# Altium footprint library 器件封装.PCBLIB: 225 footprints (part 4 of 15)
Each footprint in its own frame and in the unit in brackets; x right, y up, seen from the top. Pads: shape width x height; smd on the part's side, far side on the other; paste and mask are expansions set on the pad; w line width, h text height; cw(c..) or ccw(c..) is an arc to the next point about the centre after c.
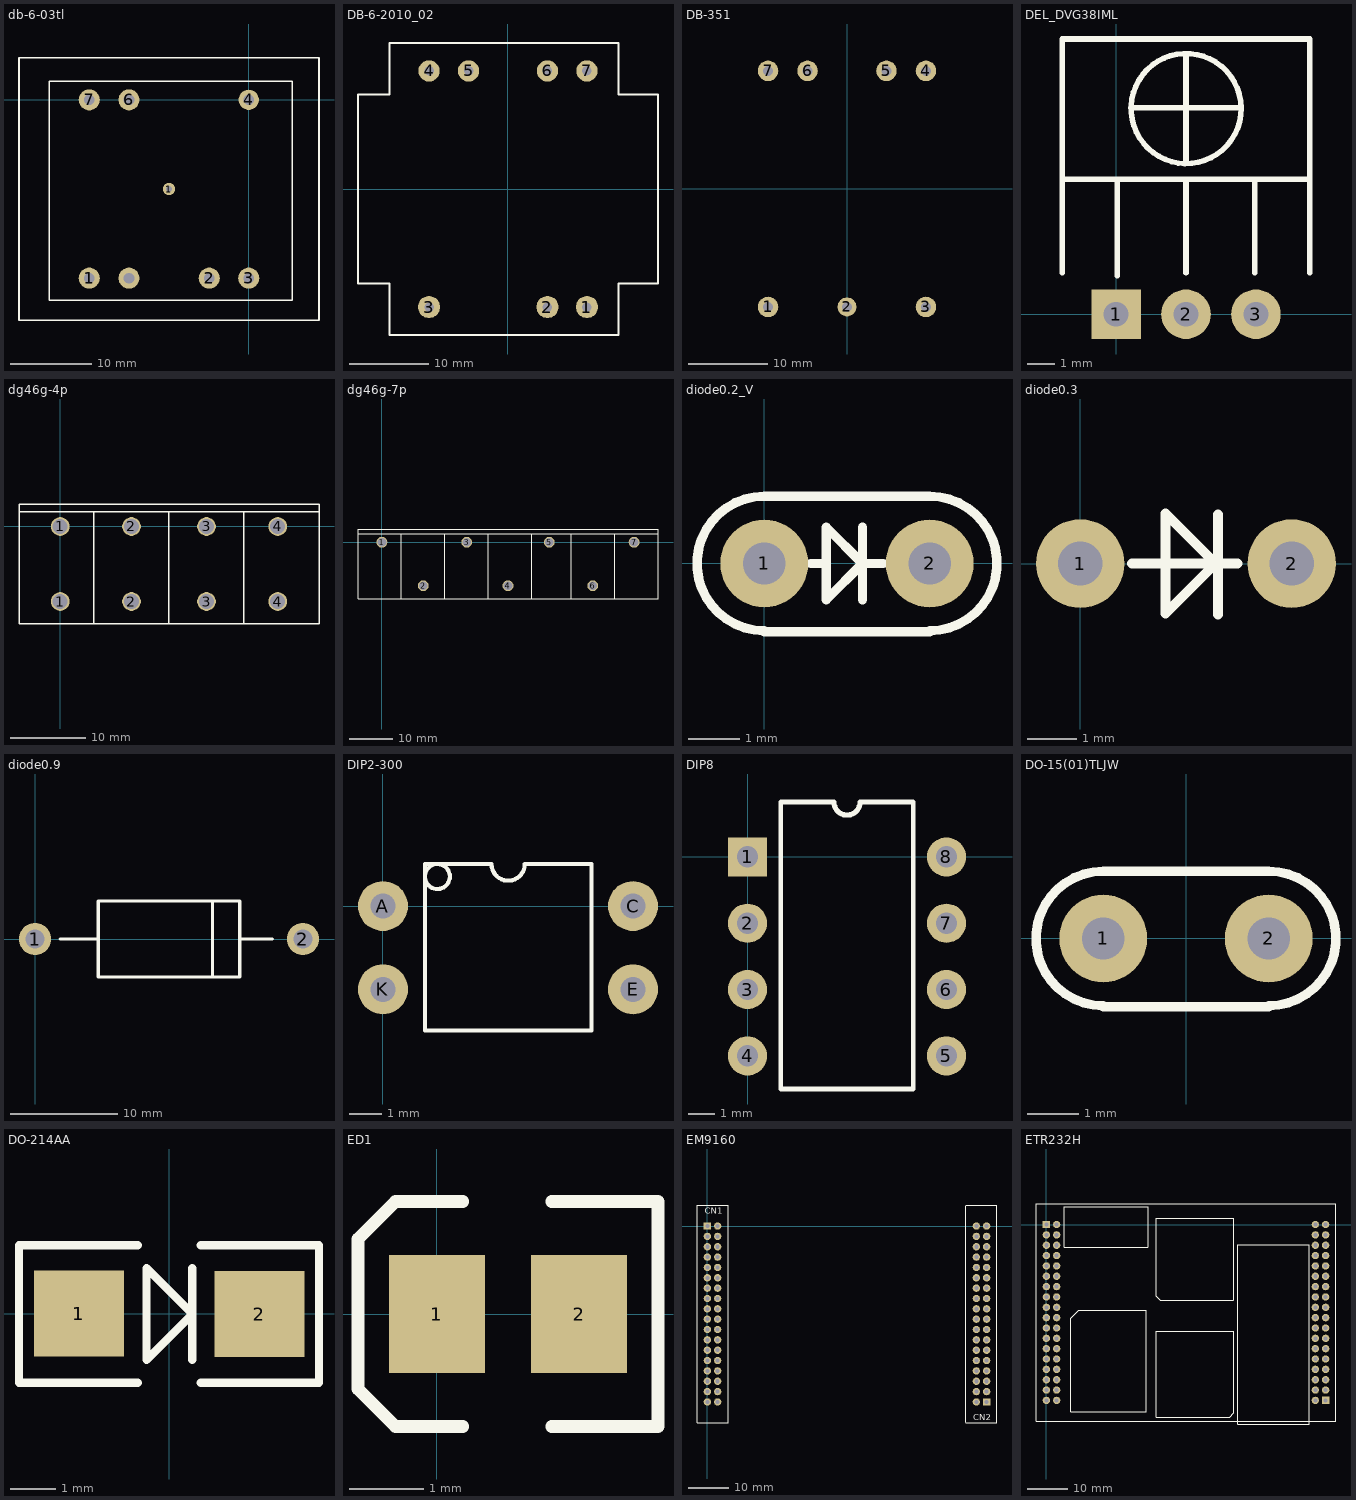
[diagram p3: the footprints below, top view; thin cyan lines are the x and y axes]

## db-6-03tl [mm]
pads (9):
  round 2.6 hole 1.3: 1(-19.67,-22) 2(-4.87,-22) 3(0,-22) 6(-14.77,0) 7(-19.67,0) ""(-14.77,-22)
  round 1.524 hole 0.762: 1(-9.835,-11)
  round 2.5 hole 1.3: 4(0,0)
  round 0 all layers, no hole: 5(-4.87,0)
TopOverlay:
  lines w0.2: 5.272,2.27 -24.62,2.27 -24.62,-24.73 5.38,-24.73 5.38,2.27 ; -28.335,-27.2 -28.335,5.2 8.665,5.2 8.665,-27.2 -28.335,-27.2

## DB-6-2010_02 [mm]
pads (7):
  round 2.8 hole 1.2: 1(10,-14.95) 2(5,-14.95) 3(-10,-14.95)
  round 2.7 hole 1.2: 4(-10,14.95) 5(-5,14.95) 6(5,14.95) 7(10,14.95)
TopOverlay:
  lines w0.254: -19,-12 -15,-12 -15,-18.5 14,-18.5 14,-12 19,-12 19,12 14,12 14,18.5 -15,18.5 -15,12 -19,12 -19,-12

## DB-351 [mm]
pads (7):
  round 2.6 hole 1.3: 1(-10,-14.95) 3(10,-14.95) 4(10,14.95) 5(5,14.95) 6(-5,14.95) 7(-10,14.95)
  round 2.4 hole 1.3: 2(0,-14.95)
BottomOverlay:
  lines w0.2: -19,-12.01 -14,-12.01 -14,-18.51 15,-18.51 15,-12.01 19,-12.01 19,11.99 15,11.99 15,18.49 -14,18.49 -14,11.99 -19,11.99 -19,-12.01

## DEL_DVG38IML [mm]
pads (3):
  rect 1.8x1.8 hole 0.9: 1(0,0)
  round 1.8 hole 0.9: 2(2.54,0) 3(5.08,0)
TopOverlay:
  lines w0.2: -1.96,1.5 -1.96,10 7.04,10 7.04,1.5 ; -1.96,4.9 6.986,4.9 ; 0.04,1.4 0.04,4.9 ; 0.54,7.5 4.54,7.5 ; 2.54,1.5 2.54,4.9 ; 2.54,5.5 2.54,9.4 ; 4.477,7.994 ccw(c2.546,7.474) 4.482,7.974 ; 5.04,1.5 5.04,4.9

## dg46g-4p [mm]
pads (8):
  round 2.5 hole 2: 1(0,-10) 1(0,0) 2(9.5,-10) 2(9.5,0) 3(19.5,-10) 3(19.5,0) 4(29,-10) 4(29,0)
TopOverlay:
  lines w0.2: -5.5,2 34.5,2 ; 4.5,-13 4.5,2 ; 14.5,-13 14.5,2 ; 24.5,-13 24.5,2 ; -5.5,-13 -5.5,3 34.5,3 34.5,-13 -5.5,-13

## dg46g-7p [mm]
pads (7):
  round 2.5 hole 2: 1(0,0) 2(9.5,-10) 3(19.5,0) 4(29,-10) 5(38.5,0) 6(48.5,-10) 7(58,0)
TopOverlay:
  lines w0.2: -5.5,2 63.5,2 ; 4.5,-13 4.5,2 ; 14.5,-13 14.5,2 ; 24.5,-13 24.5,2 ; 34.5,-13 34.5,2 ; 43.5,-13 43.5,2 ; 53.5,-13 53.5,2 ; -5.5,-13 63.5,-13 63.5,3 -5.5,3 -5.5,-13

## diode0.2_V [mm]
pads (2):
  round 1.7 hole 0.82: 1(0,0) 2(3.2,0)
TopOverlay:
  lines w0.18: 0,-1.32 3.2,-1.32 ; 0,-1.3 cw(c0,0) 0,1.3 3.2,1.3 cw(c3.2,0) 3.2,-1.3 ; 0.9,0 1.2,0 ; 1.9,-0.7 1.9,0.7 ; 2.3,0 1.9,0 ; 1.9,0 1.2,0.7 1.2,-0.7 1.9,0

## diode0.3 [mm]
pads (2):
  round 1.8 hole 0.9: 1(0,0) 2(4.3,0)
TopOverlay:
  lines w0.2: 1.05,0 3.2,0 ; 2.8,-1.032 2.8,1 ; 1.732,-1.016 2.748,0 1.732,1.016 1.732,-1.016

## diode0.9 [mm]
pads (2):
  round 3 hole 1.8: 1(0,0) 2(25,0)
TopOverlay:
  lines w0.305: 2.34,0 5.896,0 ; 16.564,-3.556 16.564,3.556 ; 19.104,0 22.152,0 ; 5.896,-3.556 19.104,-3.556 19.104,3.556 5.896,3.556 5.896,-3.556

## DIP2-300 [mil]
pads (4):
  round 60 hole 30: A(0,0) C(300.24,0) E(300.24,-100) K(0,-100)
TopOverlay:
  circle w5: c65.29,35.44 r15
  lines w5: 50.29,-149.56 250.29,-149.56 250.29,50.44 170.29,50.44 cw(c150.29,50.44) 130.29,50.44 50.29,50.44 50.29,-149.56

## DIP8 [mm]
pads (8):
  rect 1.5x1.5 hole 0.82: 1(-0.006,0)
  round 1.5 hole 0.82: 2(-0.006,-2.54) 3(-0.006,-5.08) 4(-0.006,-7.62) 5(7.614,-7.62) 6(7.614,-5.08) 7(7.614,-2.54) 8(7.614,0)
TopOverlay:
  lines w0.18: 3.249,2.1 1.264,2.1 1.264,-8.89 6.344,-8.89 6.344,2.1 4.352,2.1
  lines w0.2: 3.304,2.1 ccw(c3.804,2.1) 4.304,2.1

## DO-15(01)TLJW [mm]
pads (2):
  round 1.7 hole 0.82: 1(-1.6,0) 2(1.6,0)
TopOverlay:
  lines w0.18: -1.6,-1.32 1.6,-1.32 ; -1.6,-1.3 cw(c-1.6,0) -1.6,1.3 1.6,1.3 cw(c1.6,0) 1.6,-1.3

## DO-214AA [mm]
pads (2):
  rect 2x1.9 smd: 1(-2,0.005) 2(2,-0.005)
TopOverlay:
  lines w0.185: -0.7,-1.529 -3.33,-1.529 -3.33,1.519 -0.7,1.519 ; 0.512,-1.021 0.512,1.011 ; 0.7,-1.529 3.32,-1.529 3.32,1.519 0.7,1.519 ; -0.504,-1.021 0.512,-0.005 -0.504,1.011 -0.504,-1.021

## ED1 [mm]
pads (2):
  rect 1.3x1.6 smd: 1(0,0) 2(1.924,0)
TopOverlay:
  lines w0.17: 0.346,-1.524 -0.562,-1.524 -1.07,-1.016 -1.07,1.016 -0.562,1.524 0.346,1.524 ; 1.554,-1.524 2.994,-1.524 2.994,1.524 1.554,1.524

## EM9160 [mm]
pads (72):
  rect 1.8x1.8 hole 1: 1A(0,0) 1B(68.58,-43.18)
  round 1.8 hole 1: 2A(2.54,0) 2B(66.04,-43.18) 3A(0,-2.54) 3B(68.58,-40.64) 4A(2.54,-2.54) 4B(66.04,-40.64) 5A(0,-5.08) 5B(68.58,-38.1) 6A(2.54,-5.08) 6B(66.04,-38.1) 7A(0,-7.62) 7B(68.58,-35.56) 8A(2.54,-7.62) 8B(66.04,-35.56) 9A(0,-10.16) 9B(68.58,-33.02) 10A(2.54,-10.16) 10B(66.04,-33.02) 11A(0,-12.7) 11B(68.58,-30.48) 12A(2.54,-12.7) 12B(66.04,-30.48) 13A(0,-15.24) 13B(68.58,-27.94) 14A(2.54,-15.24) 14B(66.04,-27.94) 15A(0,-17.78) 15B(68.58,-25.4) 16A(2.54,-17.78) 16B(66.04,-25.4) 17A(0,-20.32) 17B(68.58,-22.86) 18A(2.54,-20.32) 18B(66.04,-22.86) 19A(0,-22.86) 19B(68.58,-20.32) 20A(2.54,-22.86) 20B(66.04,-20.32) 21A(0,-25.4) 21B(68.58,-17.78) 22A(2.54,-25.4) 22B(66.04,-17.78) 23A(0,-27.94) 23B(68.58,-15.24) 24A(2.54,-27.94) 24B(66.04,-15.24) 25A(0,-30.48) 25B(68.58,-12.7) 26A(2.54,-30.48) 26B(66.04,-12.7) 27A(0,-33.02) 27B(68.58,-10.16) 28A(2.54,-33.02) 28B(66.04,-10.16) 29A(0,-35.56) 29B(68.58,-7.62) 30A(2.54,-35.56) 30B(66.04,-7.62) 31A(0,-38.1) 31B(68.58,-5.08) 32A(2.54,-38.1) 32B(66.04,-5.08) 33A(0,-40.64) 33B(68.58,-2.54) 34A(2.54,-40.64) 34B(66.04,-2.54) 35A(0,-43.18) 35B(68.58,0) 36A(2.54,-43.18) 36B(66.04,0)
TopOverlay:
  lines w0.2: 5.08,5 5.08,-48.26 -2.54,-48.26 -2.54,5.08 5.08,5.08 ; 63.5,-48.26 71.12,-48.26 71.12,5.08 63.5,5.08 ; 63.5,-48.2 63.5,4.9
  text "CN2" at 65.28,-47.68 h1.52
  text "CN1" at -0.62,3.02 h1.52

## ETR232H [mm]
pads (72):
  rect 1.8x1.8 hole 1: 1A(0,0) 1B(68.58,-43.18)
  round 1.8 hole 1: 2A(2.54,0) 2B(66.04,-43.18) 3A(0,-2.54) 3B(68.58,-40.64) 4A(2.54,-2.54) 4B(66.04,-40.64) 5A(0,-5.08) 5B(68.58,-38.1) 6A(2.54,-5.08) 6B(66.04,-38.1) 7A(0,-7.62) 7B(68.58,-35.56) 8A(2.54,-7.62) 8B(66.04,-35.56) 9A(0,-10.16) 9B(68.58,-33.02) 10A(2.54,-10.16) 10B(66.04,-33.02) 11A(0,-12.7) 11B(68.58,-30.48) 12A(2.54,-12.7) 12B(66.04,-30.48) 13A(0,-15.24) 13B(68.58,-27.94) 14A(2.54,-15.24) 14B(66.04,-27.94) 15A(0,-17.78) 15B(68.58,-25.4) 16A(2.54,-17.78) 16B(66.04,-25.4) 17A(0,-20.32) 17B(68.58,-22.86) 18A(2.54,-20.32) 18B(66.04,-22.86) 19A(0,-22.86) 19B(68.58,-20.32) 20A(2.54,-22.86) 20B(66.04,-20.32) 21A(0,-25.4) 21B(68.58,-17.78) 22A(2.54,-25.4) 22B(66.04,-17.78) 23A(0,-27.94) 23B(68.58,-15.24) 24A(2.54,-27.94) 24B(66.04,-15.24) 25A(0,-30.48) 25B(68.58,-12.7) 26A(2.54,-30.48) 26B(66.04,-12.7) 27A(0,-33.02) 27B(68.58,-10.16) 28A(2.54,-33.02) 28B(66.04,-10.16) 29A(0,-35.56) 29B(68.58,-7.62) 30A(2.54,-35.56) 30B(66.04,-7.62) 31A(0,-38.1) 31B(68.58,-5.08) 32A(2.54,-38.1) 32B(66.04,-5.08) 33A(0,-40.64) 33B(68.58,-2.54) 34A(2.54,-40.64) 34B(66.04,-2.54) 35A(0,-43.18) 35B(68.58,0) 36A(2.54,-43.18) 36B(66.04,0)
TopOverlay:
  lines w0.2: -2.54,-48.26 71.12,-48.26
  lines w0.254: -2.54,-48.26 -2.54,5.08 71.12,5.08 71.12,-48.26 ; 24.9,-5.6 4.4,-5.6 4.4,4.4 25,4.4 25,-5.6 ; 45.92,-18.58 28,-18.58 27,-17.58 27,1.58 46,1.58 46,-18.58 ; 6,-46 6,-23 8,-21 24.5,-21 24.5,-46 6,-46 ; 27,-47.26 45,-47.26 46,-46.26 46,-26.26 27,-26.26 27,-47.26 ; 47,-49.01 47,-5 64.5,-5 64.5,-49.01 47,-49.01